# EAGLE library part TWELITE-PIN (library Self-made parts)
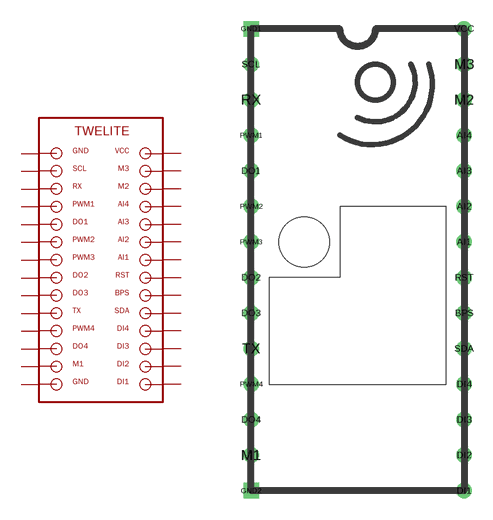
[diagram p2: symbol with the pads of TWELITE-PIN; footprint TWELITE-PIN]

Designator prefix -

## TWELITE-PIN  [TWELITE-PIN]
AI1  AI1
AI2  AI2
AI3  AI3
AI4  AI4
BPS  BPS
DI1  DI1
DI2  DI2
DI3  DI3
DI4  DI4
DO1  DO1
DO2  DO2
DO3  DO3
DO4  DO4
GND1  GND1
GND2  GND2
M1  M1
M2  M2
M3  M3
PWM1  PWM1
PWM2  PWM2
PWM3  PWM3
PWM4  PWM4
RST  RST
RX  RX
SCL  SCL
SDA  SDA
TX  TX
VCC  VCC

## Footprint TWELITE-PIN (pad centres in mm)
drill 0.6: AI1 15.24,17.78; AI2 15.24,20.32; AI3 15.24,22.86; AI4 15.24,25.4; BPS 15.24,12.7; DI1 15.24,0; DI2 15.24,2.54; DI3 15.24,5.08; DI4 15.24,7.62; DO1 0,22.86; DO2 0,15.24; DO3 0,12.7; DO4 0,5.08; M1 0,2.54; M2 15.24,27.94; M3 15.24,30.48; PWM1 0,25.4; PWM2 0,20.32; PWM3 0,17.78; PWM4 0,7.62; RST 15.24,15.24; RX 0,27.94; SCL 0,30.48; SDA 15.24,10.16; TX 0,10.16; VCC 15.24,33.02
drill 0.6 square: GND1 0,33.02; GND2 0,0